# EAGLE library part ADXL345 (library ADXL345)
3-Axis Accelerometer IC Source: Datasheet <http://www.analog.com/media/en/technical-documentation/data-sheets/ADXL345.pdf>
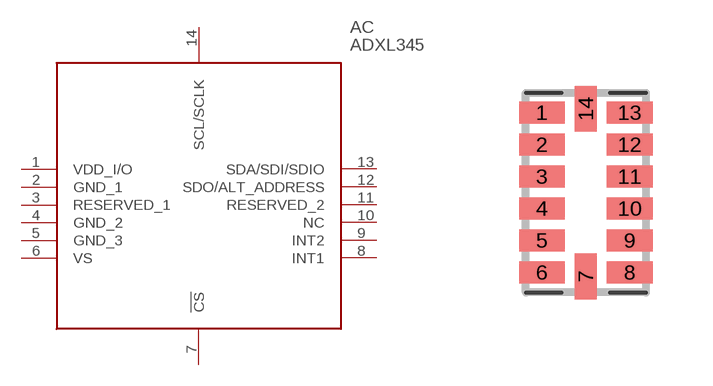
[diagram p0: symbol with the pads of CC-14-1; footprint CC-14-1]

Designator prefix AC

## ADXL345 (Description: 3-Axis Accelerometer IC; Height: mm; Manufacturer_Name: Analog Devices; Manufacturer_Part_Number: ADXL345; Mouser_Part_Number: N/A; Mouser_Price-Stock: https://www.mouser.co.uk/ProductDetail/Analog-Devices/ADXL345?qs=5aG0NVq1C4y%252BItyqaAF9pQ%3D%3D)  [CC-14-1]
1  VDD_I/O  pwr
2  GND_1  pwr
3  RESERVED_1
4  GND_2  pwr
5  GND_3  pwr
6  VS
7  !CS  in
8  INT1  in
9  INT2  in
10  NC  nc
11  RESERVED_2
12  SDO/ALT_ADDRESS
13  SDA/SDI/SDIO
14  SCL/SCLK  in

## Footprint CC-14-1 (pad centres in mm)
CC-14-1
smd 1.145 x 0.55: 1 -1.097,2; 2 -1.097,1.2; 3 -1.097,0.4; 4 -1.097,-0.4; 5 -1.097,-1.2; 6 -1.097,-2; 8 1.097,-2; 9 1.097,-1.2; 10 1.097,-0.4; 11 1.097,0.4; 12 1.097,1.2; 13 1.097,2
smd 0.55 x 1.145: 7 0,-2.098; 14 0,2.098